# Altium footprint library WispLib.PcbLib: 59 footprints (part 2 of 4)
Each footprint in its own frame and in the unit in brackets; x right, y up, seen from the top. Pads: shape width x height; smd on the part's side, far side on the other; paste and mask are expansions set on the pad; w line width, h text height; cw(c..) or ccw(c..) is an arc to the next point about the centre after c.
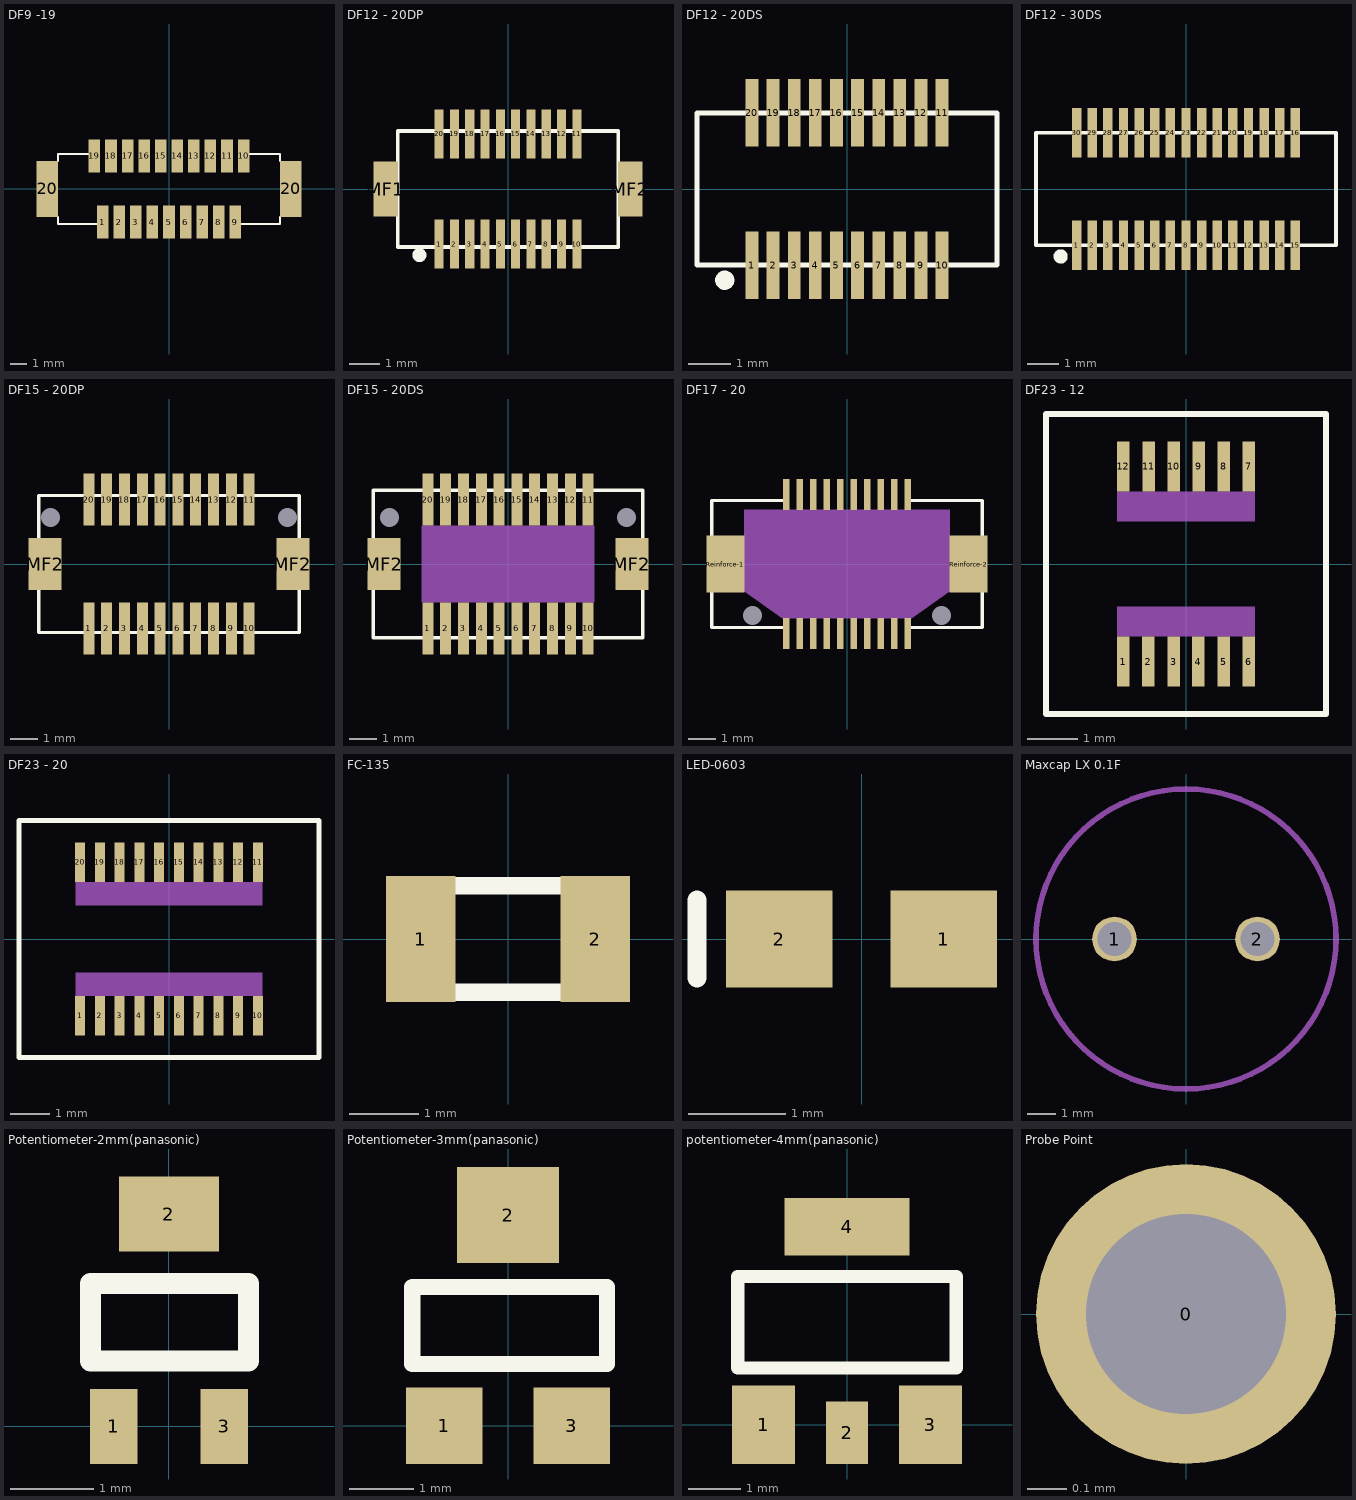
[diagram p1: the footprints below, top view; thin cyan lines are the x and y axes]

## DF9 -19 [mm] "DF9 -19, 19 Pin Connector"
pads (21):
  rect 0.7x2 smd: 1(-4,-2) 2(-3,-2) 3(-2,-2) 4(-1,-2) 5(0,-2) 6(1,-2) 7(2,-2) 8(3,-2) 9(4,-2) 10(4.5,2) 11(3.5,2) 12(2.5,2) 13(1.5,2) 14(0.5,2) 15(-0.5,2) 16(-1.5,2) 17(-2.5,2) 18(-3.5,2) 19(-4.5,2)
  rect 1.3x3.4 smd: 20(-7.35,0) 20(7.35,0)
Top Overlay:
  lines w0.127: -6.7,-1.7 -6.7,-2.1 -4.3,-2.1 ; -6.7,1.7 -6.7,2.1 -4.8,2.1 ; 4.3,-2.1 6.7,-2.1 6.7,-1.7 ; 4.8,2.1 6.7,2.1 6.7,1.7

## DF12 - 20DP [mm] "DF12 - 20DP, Connector Header"
height 2.3
pads (22):
  rect 0.3x1.6 smd: 1(-2.25,-1.8) 2(-1.75,-1.8) 3(-1.25,-1.8) 4(-0.75,-1.8) 5(-0.25,-1.8) 6(0.25,-1.8) 7(0.75,-1.8) 8(1.25,-1.8) 9(1.75,-1.8) 10(2.25,-1.8) 11(2.25,1.8) 12(1.75,1.8) 13(1.25,1.8) 14(0.75,1.8) 15(0.25,1.8) 16(-0.25,1.8) 17(-0.75,1.8) 18(-1.25,1.8) 19(-1.75,1.8) 20(-2.25,1.8)
  rect 0.8x1.8 smd: MF1(-4,0) MF2(4,0)
Top Overlay:
  circle w0.254: c-2.894,-2.159 r0.1
  lines w0.127: -3.6,-1.9 3.6,-1.9 3.6,1.9 -3.6,1.9 -3.6,-1.9
Mechanical 1:
  text "Conductors in area must be masked" at -2.1,0 h0.3
3D body: height 0, standoff 0, extent -2.4,-1 2.4,1

## DF12 - 20DS [mm] "DF12 - 20DS, Connector Receptacle"
height 2.7
pads (20):
  rect 0.3x1.6 smd: 1(-2.25,-1.8) 2(-1.75,-1.8) 3(-1.25,-1.8) 4(-0.75,-1.8) 5(-0.25,-1.8) 6(0.25,-1.8) 7(0.75,-1.8) 8(1.25,-1.8) 9(1.75,-1.8) 10(2.25,-1.8) 11(2.25,1.8) 12(1.75,1.8) 13(1.25,1.8) 14(0.75,1.8) 15(0.25,1.8) 16(-0.25,1.8) 17(-0.75,1.8) 18(-1.25,1.8) 19(-1.75,1.8) 20(-2.25,1.8)
Top Overlay:
  circle w0.254: c-2.894,-2.159 r0.1
  lines w0.127: -3.55,-1.8 3.55,-1.8 3.55,1.8 -3.55,1.8 -3.55,-1.8
Mechanical 1:
  text "Conductors in area must be masked" at -2.1,0 h0.3
3D body: height 0, standoff 0, extent -2.4,-1 2.4,1

## DF12 - 30DS [mm] "DF12 - 30DS, Connector Receptacle"
height 2.7
pads (30):
  rect 0.3x1.6 smd: 1(-3.5,-1.8) 2(-3,-1.8) 3(-2.5,-1.8) 4(-2,-1.8) 5(-1.5,-1.8) 6(-1,-1.8) 7(-0.5,-1.8) 8(0,-1.8) 9(0.5,-1.8) 10(1,-1.8) 11(1.5,-1.8) 12(2,-1.8) 13(2.5,-1.8) 14(3,-1.8) 15(3.5,-1.8) 16(3.5,1.8) 17(3,1.8) 18(2.5,1.8) 19(2,1.8) 20(1.5,1.8) 21(1,1.8) 22(0.5,1.8) 23(0,1.8) 24(-0.5,1.8) 25(-1,1.8) 26(-1.5,1.8) 27(-2,1.8) 28(-2.5,1.8) 29(-3,1.8) 30(-3.5,1.8)
Top Overlay:
  circle w0.254: c-4.012,-2.159 r0.1
  lines w0.127: -4.8,-1.8 4.8,-1.8 4.8,1.8 -4.8,1.8 -4.8,-1.8
Mechanical 1:
  text "Conductors in area must be masked" at -2.1,0 h0.3
3D body: height 0, standoff 0, extent -3.7,-1 3.7,1

## DF15 - 20DP [mm] "DF15 - 20DP, Connector Header"
height 3.2
pads (24):
  rect 0.4x1.9 smd: 1(-2.925,-2.35) 2(-2.275,-2.35) 3(-1.625,-2.35) 4(-0.975,-2.35) 5(-0.325,-2.35) 6(0.325,-2.35) 7(0.975,-2.35) 8(1.625,-2.35) 9(2.275,-2.35) 10(2.925,-2.35) 11(2.925,2.35) 12(2.275,2.35) 13(1.625,2.35) 14(0.975,2.35) 15(0.325,2.35) 16(-0.325,2.35) 17(-0.975,2.35) 18(-1.625,2.35) 19(-2.275,2.35) 20(-2.925,2.35)
  round 0 hole 0.7 unplated: 2(4.325,1.7) boss1(-4.325,1.7)
  rect 1.2x1.9 smd: MF2(-4.525,0) MF2(4.525,0)
Top Overlay:
  lines w0.127: -4.75,-2.5 4.75,-2.5 4.75,2.5 -4.75,2.5 -4.75,-2.5

## DF15 - 20DS [mm] "DF15 - 20DS, Connector Receptacle"
height 3.2
pads (24):
  rect 0.4x1.9 smd: 1(-2.925,-2.35) 2(-2.275,-2.35) 3(-1.625,-2.35) 4(-0.975,-2.35) 5(-0.325,-2.35) 6(0.325,-2.35) 7(0.975,-2.35) 8(1.625,-2.35) 9(2.275,-2.35) 10(2.925,-2.35) 11(2.925,2.35) 12(2.275,2.35) 13(1.625,2.35) 14(0.975,2.35) 15(0.325,2.35) 16(-0.325,2.35) 17(-0.975,2.35) 18(-1.625,2.35) 19(-2.275,2.35) 20(-2.925,2.35)
  round 0 hole 0.7 unplated: boss1(-4.325,1.7) boss2(4.325,1.7)
  rect 1.2x1.9 smd: MF2(-4.525,0) MF2(4.525,0)
Top Overlay:
  lines w0.127: -4.925,-2.7 4.925,-2.7 4.925,2.7 -4.925,2.7 -4.925,-2.7
Mechanical 1:
  rectangle: -3.163,-1.4 3.163,1.4
  text "Conductors in area must be masked" at -2.8,-1.9 h0.4

## DF17 - 20 [mm] "DF17 - 20, Connector"
pads (24):
  rect 0.25x1.15 smd: 1(-2.25,-2.575) 2(-1.75,-2.575) 3(-1.25,-2.575) 4(-0.75,-2.575) 5(-0.25,-2.575) 6(0.25,-2.575) 7(0.75,-2.575) 8(1.25,-2.575) 9(1.75,-2.575) 10(2.25,-2.575) 11(2.25,2.575) 12(1.75,2.575) 13(1.25,2.575) 14(0.75,2.575) 15(0.25,2.575) 16(-0.25,2.575) 17(-0.75,2.575) 18(-1.25,2.575) 19(-1.75,2.575) 20(-2.25,2.575)
  round 0 hole 0.7 unplated: Guide_Post-1(-3.5,-1.9) Guide_Post-2(3.5,-1.9)
  rect 1.4x2.1 smd: Reinforce-1(-4.5,0) Reinforce-2(4.5,0)
Top Overlay:
  lines w0.127: -5,-1.05 -5,-2.35 -2.35,-2.35 ; -5,1.05 -5,2.35 -2.35,2.35 ; 2.35,-2.35 5,-2.35 5,-1.05 ; 2.4,2.35 5,2.35 5,1.05
Mechanical 1:
  region: -3.8,2 -3.8,-1 -2.4,-2 2.4,-2 3.8,-1 3.8,2
  text "Conductors in area must be masked" at -1.4,-2.3 h0.2

## DF23 - 12 [mm] "DF23 - 12, Connector"
height 1.2
pads (12):
  rect 0.25x1 smd: 1(-1.25,-1.95) 2(-0.75,-1.95) 3(-0.25,-1.95) 4(0.25,-1.95) 5(0.75,-1.95) 6(1.25,-1.95) 7(1.25,1.95) 8(0.75,1.95) 9(0.25,1.95) 10(-0.25,1.95) 11(-0.75,1.95) 12(-1.25,1.95)
Top Overlay:
  lines w0.127: -2.8,-3 2.8,-3 2.8,3 -2.8,3 -2.8,-3
Mechanical 1:
  rectangle: -1.375,-1.45 1.375,-0.85
  rectangle: -1.375,0.85 1.375,1.45
  text "Conductors in area must be masked" at -1.375,-0.7 h0.2

## DF23 - 20 [mm] "DF23 - 20, Connector"
height 1.2
pads (20):
  rect 0.25x1 smd: 1(-2.25,-1.95) 2(-1.75,-1.95) 3(-1.25,-1.95) 4(-0.75,-1.95) 5(-0.25,-1.95) 6(0.25,-1.95) 7(0.75,-1.95) 8(1.25,-1.95) 9(1.75,-1.95) 10(2.25,-1.95) 11(2.25,1.95) 12(1.75,1.95) 13(1.25,1.95) 14(0.75,1.95) 15(0.25,1.95) 16(-0.25,1.95) 17(-0.75,1.95) 18(-1.25,1.95) 19(-1.75,1.95) 20(-2.25,1.95)
Top Overlay:
  lines w0.127: -3.8,-3 3.8,-3 3.8,3 -3.8,3 -3.8,-3
Mechanical 1:
  rectangle: -2.375,-1.45 2.375,-0.85
  rectangle: -2.375,0.85 2.375,1.45
  text "Conductors in area must be masked" at -2.375,-0.7 h0.2

## FC-135 [mm] "FC-135   crystal - epson eletronics"
height 0.8
pads (2):
  rect 1x1.8 smd: 1(-1.25,0) 2(1.25,0)
Top Overlay:
  lines w0.254: -0.762,-0.762 0.762,-0.762 ; -0.762,0.762 0.762,0.762

## LED-0603 [mm] "LED SML-311UTT86"
height 0.87
pads (2):
  rect 1.1x1 smd: 1(0.85,0) 2(-0.85,0)
Top Overlay:
  lines w0.2: -1.7,-0.4 -1.7,0.4

## Maxcap LX 0.1F [mm] "Maxcap LX Series, 0.1F, Diameter  11mm, Leads 5.1mm"
height 6.5
pads (2):
  round 1.6 hole 1.2: 1(-2.55,0) 2(2.55,0)
Mechanical 1:
  circle w0.2: c0,0 r5.35

## Potentiometer-2mm(panasonic) [mm]
pads (3):
  rect 0.575x0.9 smd: 1(-0.663,0) 3(0.663,0)
  rect 1.2x0.9 smd: 2(0,2.55)
Top Overlay:
  lines w0.254: -0.94,0.787 -0.94,1.714 0.953,1.714 0.953,0.787 -0.94,0.787

## Potentiometer-3mm(panasonic) [mm]
pads (3):
  rect 1.2x1.2 smd: 1(-1,0) 3(1,0)
  rect 1.6x1.5 smd: 2(0,3.3)
Top Overlay:
  lines w0.254: -1.499,0.965 -1.499,2.172 1.549,2.172 1.549,0.965 -1.499,0.965

## potentiometer-4mm(panasonic) [mm]
pads (4):
  rect 1.2x1.5 smd: 1(-1.6,0) 3(1.6,0)
  rect 0.8x1.2 smd: 2(0,-0.15)
  rect 2.4x1.1 smd: 4(0,3.8)
Top Overlay:
  lines w0.254: -2.095,1.092 -2.095,2.845 2.095,2.845 2.095,1.092 -2.095,1.092

## Probe Point [mil] "35mil Pad, 20mil hole size"
pads (1):
  round 30 hole 20: 0(0,0)